# Altium footprint library PE73-2G4M04S1F.PcbLib: 3 footprints
Each footprint in its own frame and in the unit in brackets; x right, y up, seen from the top. Pads: shape width x height; smd on the part's side, far side on the other; paste and mask are expansions set on the pad; w line width, h text height; cw(c..) or ccw(c..) is an arc to the next point about the centre after c.
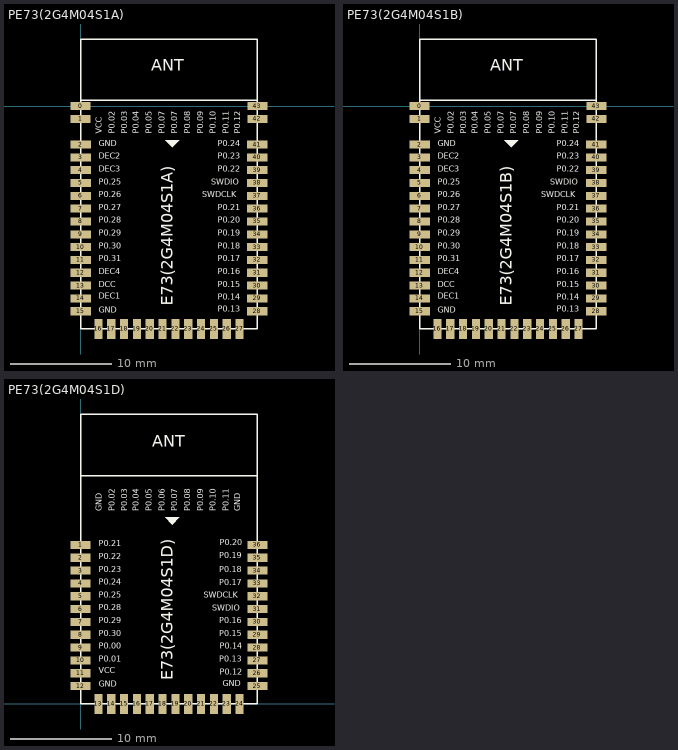
[diagram p0: the footprints below, top view; thin cyan lines are the x and y axes]

## PE73(2G4M04S1A) [mm] "28.7mm*17.5mm*2.60mm-S"
pads (44):
  rect 2x0.8 smd: 0(0,0) 1(0,-1.27) 2(0.02,-3.81) 3(0.02,-5.08) 4(0.02,-6.35) 5(0.02,-7.62) 6(0.02,-8.89) 7(0.02,-10.16) 8(0.02,-11.43) 9(0.02,-12.7) 10(0.02,-13.97) 11(0.02,-15.24) 12(0.02,-16.51) 13(0.02,-17.78) 14(0.02,-19.05) 15(0.02,-20.32) 28(17.48,-20.32) 29(17.48,-19.05) 30(17.48,-17.78) 31(17.48,-16.51) 32(17.48,-15.24) 33(17.48,-13.97) 34(17.48,-12.7) 35(17.48,-11.43) 36(17.48,-10.16) 37(17.48,-8.89) 38(17.48,-7.62) 39(17.48,-6.35) 40(17.48,-5.08) 41(17.48,-3.81) 42(17.5,-1.27) 43(17.5,0)
  rect 0.8x2 smd: 16(1.765,-22.065) 17(3.035,-22.065) 18(4.305,-22.065) 19(5.575,-22.065) 20(6.845,-22.065) 21(8.115,-22.065) 22(9.385,-22.065) 23(10.655,-22.065) 24(11.925,-22.065) 25(13.195,-22.065) 26(14.465,-22.065) 27(15.735,-22.065)
Top Overlay:
  region: 8.37,-3.375 9.76,-3.385 9.08,-4.085 8.36,-3.385
  lines w0.127: 0,0.573 17.467,0.573 ; 0,-22.065 0,6.635 17.5,6.635 17.5,-22.065 0,-22.065
  text "P0.12" at 16.009,-2.77 h1
  text "P0.11" at 14.859,-2.761 h1
  text "P0.10" at 13.589,-2.761 h1
  text "P0.09" at 12.319,-2.761 h1
  text "P0.08" at 11.049,-2.761 h1
  text "P0.07" at 9.779,-2.761 h1
  text "P0.07" at 8.509,-2.761 h1
  text "P0.05" at 7.239,-2.761 h1
  text "P0.04" at 5.969,-2.761 h1
  text "P0.03" at 4.826,-2.761 h1
  text "P0.02" at 3.556,-2.761 h1
  text "VCC" at 2.286,-2.761 h1
  text "P0.24" at 13.589,-4.158 h1
  text "P0.23" at 13.589,-5.428 h1
  text "P0.22" at 13.589,-6.698 h1
  text "SWDIO" at 12.954,-7.968 h1
  text "SWDCLK" at 12.065,-9.238 h1
  text "P0.21" at 13.589,-10.508 h1
  text "P0.20" at 13.589,-11.778 h1
  text "P0.19" at 13.589,-13.048 h1
  text "P0.18" at 13.589,-14.318 h1
  text "P0.17" at 13.589,-15.588 h1
  text "P0.16" at 13.589,-16.858 h1
  text "P0.15" at 13.589,-18.128 h1
  text "P0.14" at 13.589,-19.398 h1
  text "P0.13" at 13.589,-20.541 h1
  text "GND" at 1.778,-20.668 h1
  text "DEC1" at 1.778,-19.271 h1
  text "DCC" at 1.778,-18.128 h1
  text "DEC4" at 1.778,-16.858 h1
  text "P0.31" at 1.778,-15.588 h1
  text "P0.30" at 1.778,-14.318 h1
  text "P0.29" at 1.778,-13.048 h1
  text "P0.28" at 1.778,-11.778 h1
  text "P0.27" at 1.778,-10.508 h1
  text "P0.26" at 1.778,-9.238 h1
  text "P0.25" at 1.778,-7.968 h1
  text "DEC3" at 1.778,-6.698 h1
  text "DEC2" at 1.778,-5.428 h1
  text "GND" at 1.778,-4.158 h1
  text "ANT" at 6.985,3.081 h2
  text "E73(2G4M04S1A)" at 9.525,-19.779 h2

## PE73(2G4M04S1B) [mm] "28.7mm*17.5mm*2.60mm-S"
pads (44):
  rect 2x0.8 smd: 0(0,0) 1(0,-1.27) 2(0.02,-3.81) 3(0.02,-5.08) 4(0.02,-6.35) 5(0.02,-7.62) 6(0.02,-8.89) 7(0.02,-10.16) 8(0.02,-11.43) 9(0.02,-12.7) 10(0.02,-13.97) 11(0.02,-15.24) 12(0.02,-16.51) 13(0.02,-17.78) 14(0.02,-19.05) 15(0.02,-20.32) 28(17.48,-20.32) 29(17.48,-19.05) 30(17.48,-17.78) 31(17.48,-16.51) 32(17.48,-15.24) 33(17.48,-13.97) 34(17.48,-12.7) 35(17.48,-11.43) 36(17.48,-10.16) 37(17.48,-8.89) 38(17.48,-7.62) 39(17.48,-6.35) 40(17.48,-5.08) 41(17.48,-3.81) 42(17.5,-1.27) 43(17.5,0)
  rect 0.8x2 smd: 16(1.765,-22.065) 17(3.035,-22.065) 18(4.305,-22.065) 19(5.575,-22.065) 20(6.845,-22.065) 21(8.115,-22.065) 22(9.385,-22.065) 23(10.655,-22.065) 24(11.925,-22.065) 25(13.195,-22.065) 26(14.465,-22.065) 27(15.735,-22.065)
Top Overlay:
  region: 8.37,-3.375 9.76,-3.385 9.08,-4.085 8.36,-3.385
  lines w0.127: 0,0.573 17.467,0.573 ; 0,-22.065 17.5,-22.065 17.5,6.635 0,6.635 0,-22.065
  text "E73(2G4M04S1B)" at 9.525,-19.779 h2
  text "ANT" at 6.985,3.081 h2
  text "GND" at 1.778,-4.158 h1
  text "DEC2" at 1.778,-5.428 h1
  text "DEC3" at 1.778,-6.698 h1
  text "P0.25" at 1.778,-7.968 h1
  text "P0.26" at 1.778,-9.238 h1
  text "P0.27" at 1.778,-10.508 h1
  text "P0.28" at 1.778,-11.778 h1
  text "P0.29" at 1.778,-13.048 h1
  text "P0.30" at 1.778,-14.318 h1
  text "P0.31" at 1.778,-15.588 h1
  text "DEC4" at 1.778,-16.858 h1
  text "DCC" at 1.778,-18.128 h1
  text "DEC1" at 1.778,-19.271 h1
  text "GND" at 1.778,-20.668 h1
  text "P0.13" at 13.589,-20.541 h1
  text "P0.14" at 13.589,-19.398 h1
  text "P0.15" at 13.589,-18.128 h1
  text "P0.16" at 13.589,-16.858 h1
  text "P0.17" at 13.589,-15.588 h1
  text "P0.18" at 13.589,-14.318 h1
  text "P0.19" at 13.589,-13.048 h1
  text "P0.20" at 13.589,-11.778 h1
  text "P0.21" at 13.589,-10.508 h1
  text "SWDCLK" at 12.065,-9.238 h1
  text "SWDIO" at 12.954,-7.968 h1
  text "P0.22" at 13.589,-6.698 h1
  text "P0.23" at 13.589,-5.428 h1
  text "P0.24" at 13.589,-4.158 h1
  text "VCC" at 2.286,-2.761 h1
  text "P0.02" at 3.556,-2.761 h1
  text "P0.03" at 4.826,-2.761 h1
  text "P0.04" at 5.969,-2.761 h1
  text "P0.05" at 7.239,-2.761 h1
  text "P0.07" at 8.509,-2.761 h1
  text "P0.07" at 9.779,-2.761 h1
  text "P0.08" at 11.049,-2.761 h1
  text "P0.09" at 12.319,-2.761 h1
  text "P0.10" at 13.589,-2.761 h1
  text "P0.11" at 14.859,-2.761 h1
  text "P0.12" at 16.009,-2.77 h1

## PE73(2G4M04S1D) [mm] "28.7mm*17.5mm*2.40mm-S"
pads (36):
  rect 2x0.8 smd: 1(0,15.735) 2(0,14.465) 3(0,13.195) 4(0,11.925) 5(0,10.655) 6(0,9.385) 7(0,8.115) 8(0,6.845) 9(0,5.575) 10(0,4.305) 11(0,3.035) 12(0,1.765) 25(17.5,1.765) 26(17.5,3.035) 27(17.5,4.305) 28(17.5,5.575) 29(17.5,6.845) 30(17.5,8.115) 31(17.5,9.385) 32(17.5,10.655) 33(17.5,11.925) 34(17.5,13.195) 35(17.5,14.465) 36(17.5,15.735)
  rect 0.8x2 smd: 13(1.765,0) 14(3.035,0) 15(4.305,0) 16(5.575,0) 17(6.845,0) 18(8.115,0) 19(9.385,0) 20(10.655,0) 21(11.925,0) 22(13.195,0) 23(14.465,0) 24(15.735,0)
Top Overlay:
  region: 8.37,18.469 9.76,18.459 9.08,17.759 8.36,18.459
  lines w0.127: 0,22.606 17.5,22.606 ; 0,0 0,28.7 17.5,28.7 17.5,0 0,0
  text "P0.20" at 13.751,15.494 h1
  text "GND" at 16.009,19.074 h1
  text "P0.11" at 14.859,19.083 h1
  text "P0.10" at 13.589,19.083 h1
  text "P0.09" at 12.319,19.083 h1
  text "P0.08" at 11.049,19.083 h1
  text "P0.07" at 9.779,19.083 h1
  text "P0.06" at 8.509,19.083 h1
  text "P0.05" at 7.239,19.083 h1
  text "P0.04" at 5.969,19.083 h1
  text "P0.03" at 4.826,19.083 h1
  text "P0.02" at 3.556,19.083 h1
  text "GND" at 2.286,19.083 h1
  text "P0.19" at 13.747,14.224 h1
  text "P0.18" at 13.747,12.827 h1
  text "SWDCLK" at 12.192,10.287 h1
  text "P0.17" at 13.749,11.557 h1
  text "SWDIO" at 13.026,9.017 h1
  text "P0.16" at 13.749,7.78 h1
  text "P0.15" at 13.744,6.51 h1
  text "P0.14" at 13.751,5.24 h1
  text "P0.13" at 13.749,3.97 h1
  text "P0.12" at 13.755,2.7 h1
  text "GND" at 14.085,1.557 h1
  text "GND" at 1.778,1.524 h1
  text "VCC" at 1.778,2.827 h1
  text "P0.01" at 1.778,3.97 h1
  text "P0.00" at 1.778,5.24 h1
  text "P0.30" at 1.778,6.51 h1
  text "P0.29" at 1.778,7.78 h1
  text "P0.28" at 1.778,9.05 h1
  text "P0.25" at 1.778,10.32 h1
  text "P0.24" at 1.778,11.59 h1
  text "P0.23" at 1.778,12.86 h1
  text "P0.22" at 1.778,14.13 h1
  text "P0.21" at 1.778,15.4 h1
  text "E73(2G4M04S1D)" at 9.525,2.319 h2
  text "ANT" at 7.112,25.052 h2